# Altium footprint library FootPrintLib_4.PcbLib: 700 footprints (part 44 of 44)
Each footprint in its own frame and in the unit in brackets; x right, y up, seen from the top. Pads: shape width x height; smd on the part's side, far side on the other; paste and mask are expansions set on the pad; w line width, h text height; cw(c..) or ccw(c..) is an arc to the next point about the centre after c.
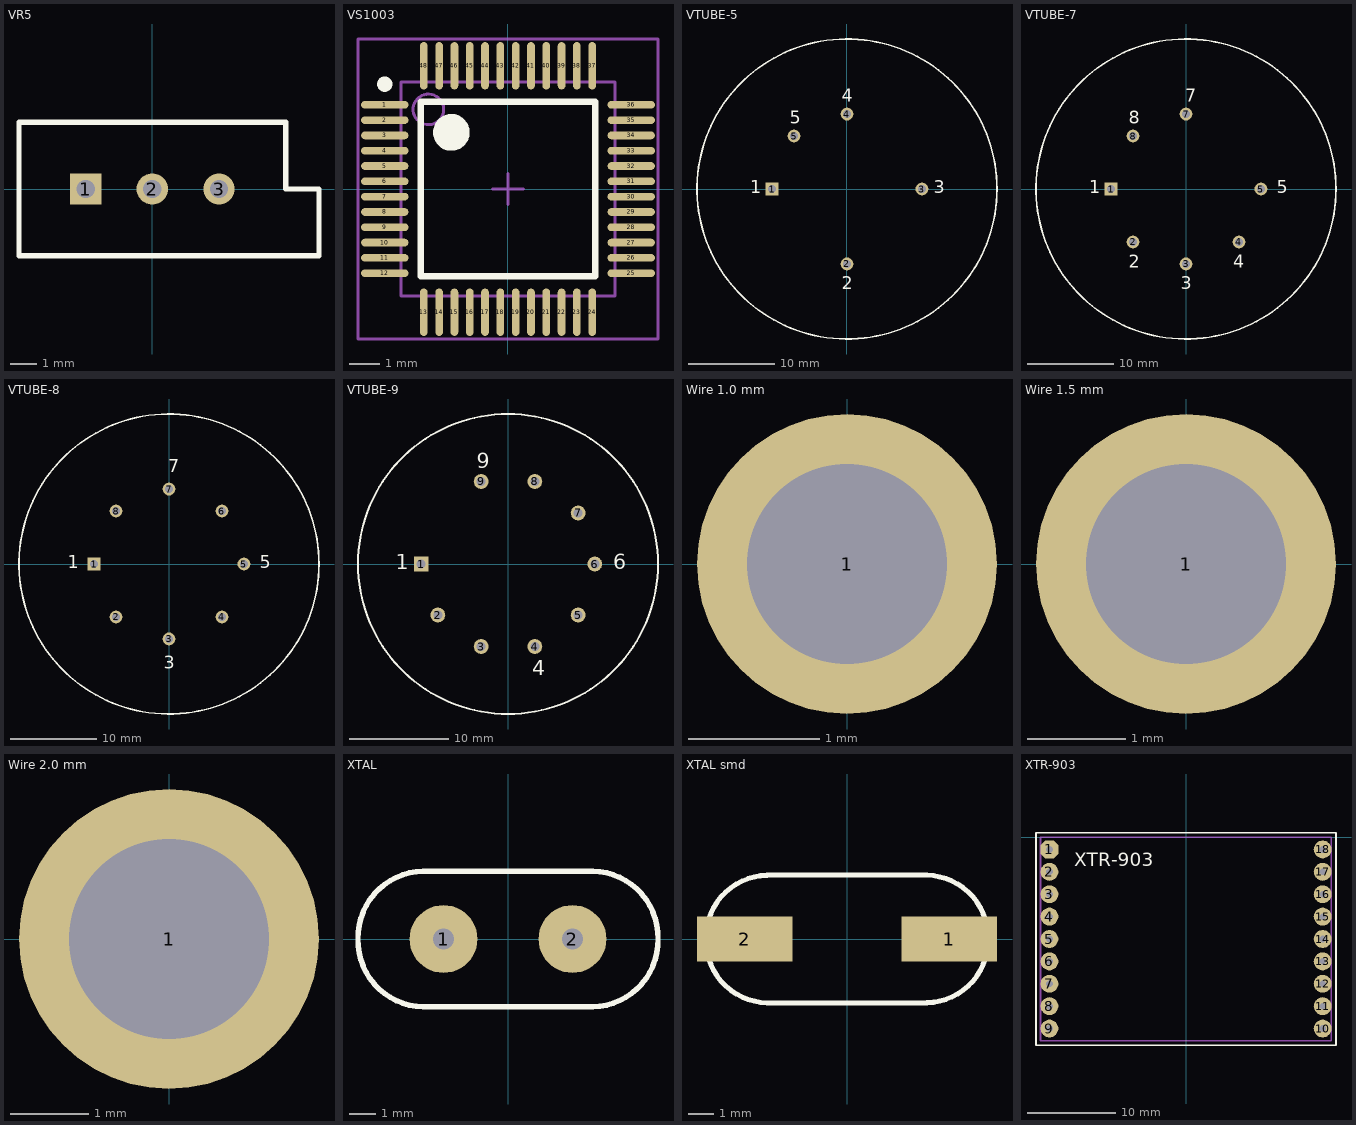
[diagram p43: the footprints below, top view; thin cyan lines are the x and y axes]

## VR5 [mm] "Thru-Hole; 3 Leads"
pads (3):
  rect 1.2x1.2 hole 0.7: 1(-2.54,0)
  round 1.2 hole 0.7: 2(0,0) 3(2.54,0)
Top Overlay:
  lines w0.2: -5.08,-2.54 6.35,-2.54 6.35,0 5.08,0 5.08,2.54 -5.08,2.54 -5.08,-2.54

## VS1003 [mm]
pads (48):
  oval 1.55x0.25 smd: 1(-4.025,2.75) 2(-4.025,2.25) 3(-4.025,1.75) 4(-4.025,1.25) 5(-4.025,0.75) 6(-4.025,0.25) 7(-4.025,-0.25) 8(-4.025,-0.75) 9(-4.025,-1.25) 10(-4.025,-1.75) 11(-4.025,-2.25) 12(-4.025,-2.75) 25(4.025,-2.75) 26(4.025,-2.25) 27(4.025,-1.75) 28(4.025,-1.25) 29(4.025,-0.75) 30(4.025,-0.25) 31(4.025,0.25) 32(4.025,0.75) 33(4.025,1.25) 34(4.025,1.75) 35(4.025,2.25) 36(4.025,2.75)
  oval 0.25x1.55 smd: 13(-2.75,-4.025) 14(-2.25,-4.025) 15(-1.75,-4.025) 16(-1.25,-4.025) 17(-0.75,-4.025) 18(-0.25,-4.025) 19(0.25,-4.025) 20(0.75,-4.025) 21(1.25,-4.025) 22(1.75,-4.025) 23(2.25,-4.025) 24(2.75,-4.025) 37(2.75,4.025) 38(2.25,4.025) 39(1.75,4.025) 40(1.25,4.025) 41(0.75,4.025) 42(0.25,4.025) 43(-0.25,4.025) 44(-0.75,4.025) 45(-1.25,4.025) 46(-1.75,4.025) 47(-2.25,4.025) 48(-2.75,4.025)
Top Overlay:
  circle w0.25: c-4.025,3.425 r0.125
  circle w0.6: c-1.85,1.85 r0.3
  lines w0.2: -2.85,-2.85 -2.85,2.85 2.85,2.85 2.85,-2.85 -2.85,-2.85
Mechanical 13:
  circle w0.1: c-2.6,2.6 r0.5
  lines w0.1: -3.5,-3.5 -3.5,3.5 3.5,3.5 3.5,-3.5 -3.5,-3.5
Mechanical 15:
  lines w0.1: -0.5,0 0.5,0 ; 0,-0.5 0,0.5 ; -4.9,-4.9 -4.9,4.9 4.9,4.9 4.9,-4.9 -4.9,-4.9
3D body: height 1.6, standoff 0, extent -3.5,-3.5 3.5,3.5

## VTUBE-5 [mm] "Vacuum Tube; 5 Leads"
pads (5):
  rect 1.5x1.5 hole 0.9: 1(-8.725,0)
  round 1.5 hole 0.9: 2(0,-8.725) 3(8.725,0) 4(0,8.725) 5(-6.17,6.17)
Top Overlay:
  circle w0.2: c0,0 r17.462
  text "1" at -11.265,-0.508 h1.5
  text "2" at -0.597,-11.684 h1.5
  text "4" at -0.597,10.16 h1.5
  text "5" at -6.693,7.62 h1.5
  text "3" at 10.071,-0.508 h1.5

## VTUBE-7 [mm] "Vacuum Tube; 7 Leads"
height 108
pads (7):
  rect 1.5x1.5 hole 0.9: 1(-8.725,0)
  round 1.5 hole 0.9: 2(-6.17,-6.17) 3(0,-8.725) 4(6.17,-6.17) 5(8.725,0) 7(0,8.725) 8(-6.17,6.17)
Top Overlay:
  circle w0.2: c0,0 r17.462
  text "8" at -6.693,7.62 h1.5
  text "7" at -0.089,10.16 h1.5
  text "5" at 10.579,-0.508 h1.5
  text "4" at 5.499,-9.144 h1.5
  text "3" at -0.597,-11.684 h1.5
  text "2" at -6.693,-9.144 h1.5
  text "1" at -11.265,-0.508 h1.5

## VTUBE-8 [mm] "Vacuum Tube; 8 Leads"
height 108
pads (8):
  rect 1.5x1.5 hole 0.9: 1(-8.725,0)
  round 1.5 hole 0.9: 2(-6.17,-6.17) 3(0,-8.725) 4(6.17,-6.17) 5(8.725,0) 6(6.17,6.17) 7(0,8.725) 8(-6.17,6.17)
Top Overlay:
  circle w0.2: c0,0 r17.462
  text "1" at -11.773,-0.508 h1.5
  text "3" at -0.597,-12.192 h1.5
  text "5" at 10.579,-0.508 h1.5
  text "7" at -0.089,10.668 h1.5

## VTUBE-9 [mm] "Vacuum Tube; 9 Leads"
height 66.7
pads (9):
  rect 1.5x1.5 hole 0.9: 1(-8.725,0)
  round 1.5 hole 0.9: 2(-7.059,-5.128) 3(-2.696,-8.298) 4(2.696,-8.298) 5(7.059,-5.128) 6(8.725,0) 7(7.059,5.128) 8(2.696,8.298) 9(-2.696,8.298)
Top Overlay:
  circle w0.2: c0,0 r15.081
  text "4" at 2.451,-11.176 h1.5
  text "6" at 10.579,-0.508 h1.5
  text "9" at -3.137,9.652 h1.5
  text "1" at -11.265,-0.508 h1.5

## Wire 1.0 mm [mil]
pads (1):
  round 90 hole 60: 1(0,0)
3D body: height 118.11, standoff -78.74, extent -19.53,-19.64 19.69,19.65
3D body: height 204.72, standoff 7.87, extent -35.15,-35.36 35.44,35.37

## Wire 1.5 mm [mil]
pads (1):
  round 120 hole 80: 1(0,0)
3D body: height 118.11, standoff -78.74, extent -29.29,-29.47 29.53,29.47
3D body: height 204.72, standoff 7.87, extent -42.96,-43.22 43.31,43.23

## Wire 2.0 mm [mm]
pads (1):
  round 3.81 hole 2.54: 1(0,0)
3D body: height 5.2, standoff 0.2, extent -1.488,-1.497 1.5,1.497
3D body: height 3, standoff -2, extent -0.992,-0.998 1,0.998

## XTAL [mm]
pads (2):
  round 2.54 hole 0.8: 1(-2.413,0) 2(2.413,0)
Top Overlay:
  lines w0.203: -3.176,2.538 ccw(c-3.125,0.05) -5.612,-0.001 ccw(c-3.125,-0.053) -3.176,-2.54 3.176,-2.54 ; -3.176,2.54 3.176,2.54 cw(c3.125,0.053) 5.612,0.001 cw(c3.125,-0.05) 3.176,-2.538

## XTAL smd [mil]
pads (2):
  rect 150x70 smd: 1(160,0) 2(-160,0)
Top Overlay:
  lines w8: -125.05,99.91 ccw(c-123.02,1.98) -220.95,-0.05 ccw(c-123.02,-2.07) -125.05,-100 125.05,-100 ; -125.04,100 125.05,100 cw(c123.02,2.07) 220.95,0.04 cw(c123.02,-1.98) 125.05,-99.91

## XTR-903 [mil]
pads (18):
  oct 80x80 hole 30: 1(-610,-55)
  round 80 hole 30: 2(-610,-155) 3(-610,-255) 4(-610,-355) 5(-610,-455) 6(-610,-555) 7(-610,-655) 8(-610,-755) 9(-610,-855) 10(610.47,-855) 11(610.47,-755) 12(610.47,-655) 13(610.47,-555) 14(610.47,-455) 15(610.47,-355) 16(610.47,-255) 17(610.47,-155) 18(610.47,-55)
Top Overlay:
  lines w8: -670,-930 670,-930 670,20 -670,20 -670,-930
  text "XTR-903" at -500,-130 h60
Mechanical 1:
  lines w7.87: -650,-910 -650,0 649.21,0 649.21,-910 -650,-910
3D body: height 10, standoff 6, extent -650,-910 649.21,0